# Altium schematic symbol library IC_MAADSS0009.SchLib: 1 symbol
Pins are listed as number, name and electrical type; pins without a type are passive.

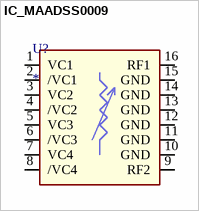
[diagram p0: symbol IC_MAADSS0009]

## IC_MAADSS0009
designator U?
pins: 1 VC1, 2 /VC1, 3 VC2, 4 /VC2, 5 VC3, 6 /VC3, 7 VC4, 8 /VC4, 9 RF2, 10 GND, 11 GND, 12 GND, 13 GND, 14 GND, 15 GND, 16 RF1